# Altium footprint library 元器件.PCBLIB: 210 footprints (part 7 of 14)
Each footprint in its own frame and in the unit in brackets; x right, y up, seen from the top. Pads: shape width x height; smd on the part's side, far side on the other; paste and mask are expansions set on the pad; w line width, h text height; cw(c..) or ccw(c..) is an arc to the next point about the centre after c.
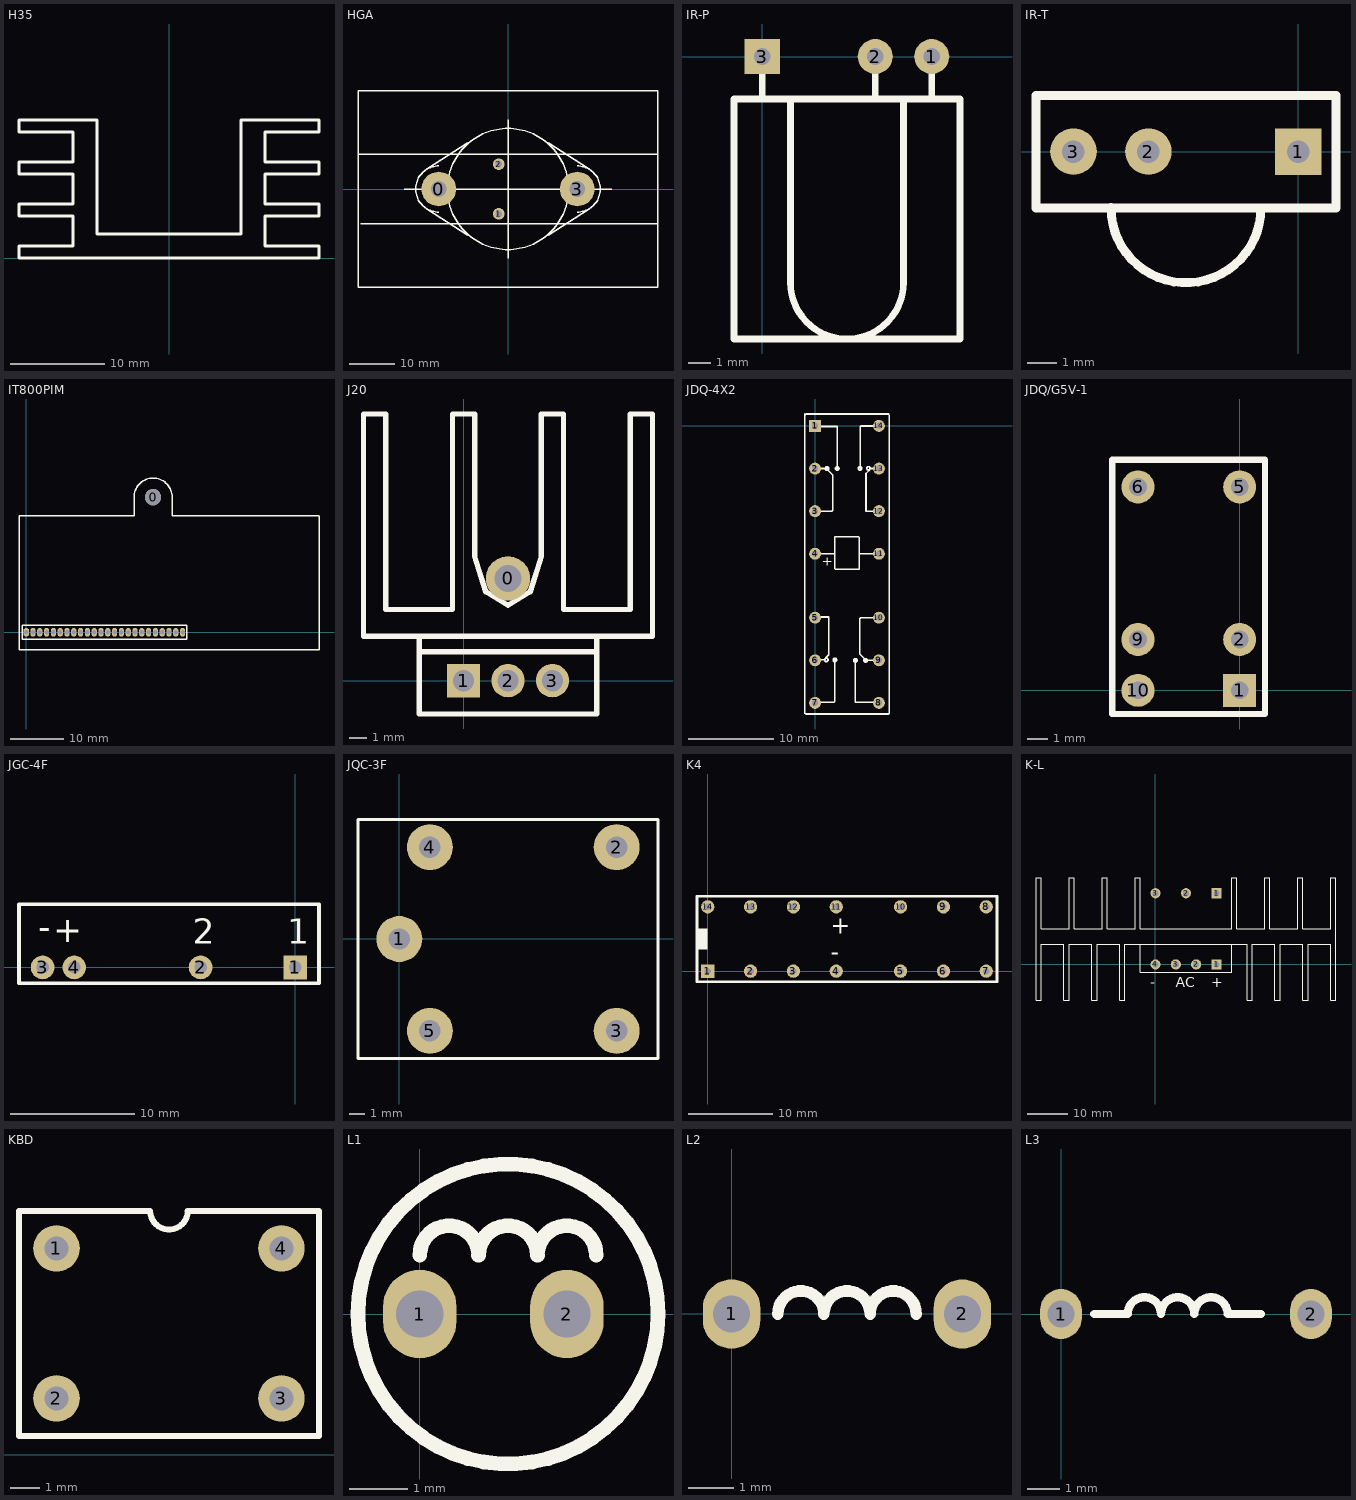
[diagram p6: the footprints below, top view; thin cyan lines are the x and y axes]

## H35 [mil]
TopOverlay:
  lines w12: -625,0 -625,50 -400,50 -400,175 -625,175 -625,225 -400,225 -400,350 -625,350 -625,400 -400,400 -400,525 -625,525 -625,575 -300,575 -300,100 300,100 300,575 625,575 625,525 400,525 400,400 625,400 625,350 400,350 400,225 625,225 625,175 400,175 400,50 625,50 625,0 -625,0

## HGA [mil]
pads (4):
  round 300 hole 135: 0(-600,0) 3(600,0)
  round 100 hole 60: 1(-80,-215) 2(-80,215)
TopOverlay:
  circle w12: c-600,0 r100
  circle w12: c600,0 r100
  circle w12: c0,0 r525
  lines w12: -1300,300 1300,300 ; -1275,-300 1300,-300 ; -900,0 900,0 ; -700,-175 -350,-400 ; -700,175 -350,400 ; -600,-200 cw(c-600,0) -600,200 ; 0,-600 0,600 ; 350,-400 700,-175 ; 350,400 700,175 ; 600,-200 ccw(c600,0) 600,200 ; -1300,-850 -1300,850 -700,850 300,850 1300,850 1300,0 1300,-850 -1300,-850

## IR-P [mil]
pads (3):
  round 62 hole 30: 1(300,0) 2(200,0)
  rect 62x62 hole 30: 3(0,0)
TopOverlay:
  lines w12: 0,-75 0,-25 ; 50,-75 50,-400 ccw(c150,-400) 250,-400 250,-75 ; 200,-75 200,-25 ; 300,-75 300,-25 ; -50,-500 -50,-75 350,-75 350,-500 -50,-500

## IR-T [mil]
pads (3):
  rect 62x62 hole 30: 1(0,0)
  round 62 hole 30: 2(-200,0) 3(-300,0)
TopOverlay:
  lines w12: -250,-75 ccw(c-150,-75) -50,-75 ; -350,-75 -350,75 50,75 50,-75 -350,-75

## IT800PIM [mil]
pads (25):
  round 120 hole 120: 0(933,994)
  oct 38x65 hole 32: 1(0,0)
  oval 38x65 hole 32: 2(50,0) 3(100,0) 4(150,0) 5(200,0) 6(250,0) 7(300,0) 8(350,0) 9(400,0) 10(450,0) 11(500,0) 12(550,0) 13(600,0) 14(650,0) 15(700,0) 16(750,0) 17(800,0) 18(850,0) 19(900,0) 20(950,0) 21(1000,0) 22(1050,0) 23(1100,0) 24(1150,0)
TopOverlay:
  lines w10: 2152,857 1073,857 1073,994 ccw(c933,994) 793,994 793,856 -53,856 -53,-130 2153,-130 2153,856 ; -30,-50 -30,50 1180,50 1180,-50 -30,-50

## J20 [mil]
pads (4):
  round 100 hole 60: 0(100,230)
  rect 75x75 hole 48: 1(0,0)
  round 75 hole 48: 2(100,0) 3(200,0)
TopOverlay:
  lines w12: -100,65 300,65 ; -100,100 -100,-75 300,-75 300,100 ; -225,100 425,100 425,600 375,600 375,160 225,160 225,600 175,600 175,280 150,200 100,170 50,200 25,280 25,600 -25,600 -25,160 -175,160 -175,600 -225,600 -225,100

## JDQ-4X2 [mm]
pads (14):
  rect 1.4x1.4 hole 0.75: 1(0,0)
  round 1.4 hole 0.75: 2(0,-5) 3(0,-10) 4(0,-15) 5(0,-22.5) 6(0,-27.5) 7(0,-32.5) 8(7.5,-32.5) 9(7.5,-27.5) 10(7.5,-22.5) 11(7.5,-15) 12(7.5,-10) 13(7.5,-5) 14(7.5,0)
TopOverlay:
  lines w0.2: -1.2,-15.9 -1.2,1.4 -1.1,1.3 ; -1.2,-14.746 -1.2,-31.2 -1.2,-33.7 -1.1,-33.8 8.665,-33.8 ; -1.1,1.4 8.665,1.4 ; 0,-15 2.3,-15 ; 0,-10 1.975,-10 2.075,-9.9 2.075,-6.05 2.075,-5.75 1.579,-5.254 ; 0,-5 1.4,-5 ; 0.1,-32.425 2.1,-32.425 ; 0.1,-27.425 1.175,-27.425 ; 0.1,-22.425 1.6,-22.425 1.625,-22.45 1.625,-26.6 1.625,-26.85 1.275,-27.2 ; 0.1,-0.075 2.6,-0.075 ; 1.125,-27.45 ccw(c1.325,-27.45) 1.146,-27.361 ; 1.579,-5.089 cw(c1.4,-5) 1.6,-5 ; 1.875,-32.425 2.2,-32.425 2.3,-32.325 2.3,-27.4 ; 2.125,-27.45 ccw(c2.325,-27.45) 2.146,-27.361 ; 2.6,-5.1 2.6,-0.1 ; 2.779,-5.089 cw(c2.6,-5) 2.8,-5 ; 4.529,-27.504 ccw(c4.729,-27.504) 4.55,-27.414 ; 4.729,-32.429 7.229,-32.429 ; 4.729,-32.404 4.729,-27.404 ; 5.3,-15 7.7,-15 ; 5.3,-5.025 5.3,-0.1 5.4,0 5.725,0 ; 5.454,-5.064 cw(c5.275,-4.975) 5.475,-4.975 ; 5.5,0 7.5,0 ; 5.729,-27.504 ccw(c5.929,-27.504) 5.75,-27.414 ; 5.75,-27.25 5.254,-26.754 5.254,-26.454 5.254,-22.604 5.354,-22.504 7.329,-22.504 ; 5.929,-27.504 7.329,-27.504 ; 6.325,-5.225 5.975,-5.575 5.975,-5.825 5.975,-9.975 6,-10 7.5,-10 ; 6.425,-5 7.5,-5 ; 6.454,-5.064 cw(c6.275,-4.975) 6.475,-4.975 ; 8.7,-33.765 8.7,-31.265 8.7,-9.1 ; 8.7,-10.254 8.7,1.265 ; 2.3,-15 2.3,-16.7 2.4,-16.8 5.2,-16.8 5.2,-13.1 5.1,-13 2.3,-13 2.3,-15
  text "+" at 0.8,-16.4 h1.14

## JDQ/G5V-1 [mil]
pads (6):
  rect 65x65 hole 35: 1(0,0)
  round 65 hole 35: 2(0,100) 5(0,400) 6(-200,400) 9(-200,100) 10(-200,0)
TopOverlay:
  lines w12: -250.63,-46.61 49.37,-46.61 49.37,453.39 -250.63,453.39 -250.63,-46.61

## JGC-4F [mil]
pads (4):
  rect 75x75 hole 40: 1(0,0)
  round 75 hole 40: 2(-300,0) 3(-800,0) 4(-700,0)
TopOverlay:
  lines w12: -875,-50 75,-50 75,200 -875,200 -875,-50
  text "+" at -675,150 h80
  text "-" at -775,150 h80
  text "1" at -25,75 h80
  text "2" at -325,75 h80

## JQC-3F [mm]
pads (5):
  round 3 hole 1.4: 1(0,0) 2(14.2,6) 3(14.2,-6) 4(2,6) 5(2,-6)
TopOverlay:
  lines w0.203: -2.7,-7.8 16.9,-7.8 16.9,7.8 -2.7,7.8 -2.7,-7.8

## K4 [mil]
pads (14):
  rect 62x62 hole 30: 1(0,0)
  round 62 hole 30: 2(200,0) 3(400,0) 4(600,0) 5(900,0) 6(1100,0) 7(1300,0) 8(1300,300) 9(1100,300) 10(900,300) 11(600,300) 12(400,300) 13(200,300) 14(0,300)
TopOverlay:
  rectangle: -50,100 0,200
  lines w12: -50,-50 1350,-50 1350,350 -50,350 -50,-50
  text "-" at 575,50 h80
  text "+" at 575,175 h80

## K-L [mil]
pads (7):
  rect 100x100 hole 60: 1(600,0) 1(600,700)
  round 100 hole 60: 2(300,700) 2(400,0) 3(0,700) 3(200,0) 4(0,0)
TopOverlay:
  lines w12: -150,200 -150,-75 750,-75 750,200 ; -1175,-350 -1175,850 -1125,850 -1125,350 -850,350 -850,850 -800,850 -800,350 -525,350 -525,850 -475,850 -475,350 -200,350 -200,850 -150,850 -150,350 750,350 750,850 800,850 800,350 1075,350 1075,850 1125,850 1125,350 1400,350 1400,850 1450,850 1450,350 1725,350 1725,850 1775,850 1775,-350 1725,-350 1725,200 1500,200 1500,-350 1450,-350 1450,200 1225,200 1225,-350 1175,-350 1175,200 950,200 950,-350 900,-350 900,200 -300,200 -300,-350 -350,-350 -350,200 -575,200 -575,-350 -625,-350 -625,200 -850,200 -850,-350 -900,-350 -900,200 -1125,200 -1125,-350 -1175,-350
  text "+" at 550,-225 h100
  text "-" at -50,-225 h100
  text "AC" at 200,-225 h100

## KBD [mil]
pads (4):
  round 62 hole 32: 1(-375,275) 2(-375,75) 3(-75,75) 4(-75,275)
TopOverlay:
  lines w8: -425,25 -425,325 -250,325 ccw(c-225,325) -200,325 -25,325 -25,25 -425,25

## L1 [mil]
pads (2):
  oval 50x60 hole 32: 1(0,0) 2(100,0)
TopOverlay:
  circle w10: c60,0 r101.98
  lines w10: 0,40 cw(c20,40) 40,40 cw(c60,40) 80,40 cw(c100,40) 120,40

## L2 [mil]
pads (2):
  oval 50x60 hole 32: 1(0,0) 2(200,0)
TopOverlay:
  lines w10: 40,0 cw(c60,0) 80,0 cw(c100,0) 120,0 cw(c140,0) 160,0

## L3 [mil]
pads (2):
  oval 50x60 hole 32: 1(0,0) 2(300,0)
TopOverlay:
  lines w10: 40,0 80,0 cw(c100,0) 120,0 cw(c140,0) 160,0 cw(c180,0) 200,0 240,0